# Altium schematic symbol library MPT-04-01-XX-X-RA-SD.SchLib: 1 symbol
Pins are listed as number, name and electrical type; pins without a type are passive.

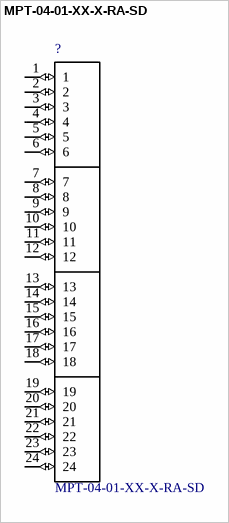
[diagram p0: symbol MPT-04-01-XX-X-RA-SD]

## MPT-04-01-XX-X-RA-SD
designator ?
/ MPT Series 5.00 mm PowerStripâ„¢/30 A Dual Blade Terminal Strip /; MF: Samtec Inc.; MP: MPT-04-01-01-L-RA-SD; Package: None; Digi-Key_Part_Number: SAM9727-ND; Digi-Key_Purchase_URL: https://www.digikey.ca/product-detail/en/samtec-inc/MPT-04-01-01-L-RA-SD/SAM9727-ND/6678464?utm_source=snapeda&utm_medium=aggregator&utm_campaign=symbol; SnapEDA_Link: https://www.snapeda.com/parts/MPT-04-01-01-L-RA-SD/Samtec%20Inc./view-part/?ref=snap; Value: *
footprint *MPT-04-01-XX-X-RA-SD
pins: 1 (io), 2 (io), 3 (io), 4 (io), 5 (io), 6 (io), 7 (io), 8 (io), 9 (io), 10 (io), 11 (io), 12 (io), 13 (io), 14 (io), 15 (io), 16 (io), 17 (io), 18 (io), 19 (io), 20 (io), 21 (io), 22 (io), 23 (io), 24 (io)